# EAGLE library part RXB6 (library ali_modules)
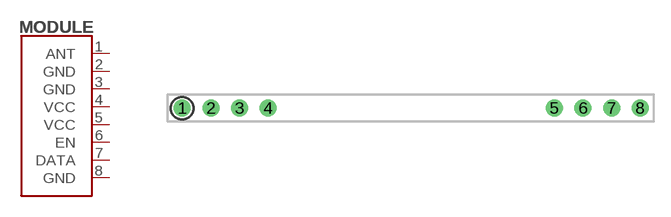
[diagram p20: symbol with the pads of RXB6; footprint RXB6]

Designator prefix MODULE

## RXB6 (MANF#: RXB6)  [RXB6]
1  ANT
2  GND
3  GND
4  VCC
5  VCC
6  EN
7  DATA
8  GND

## Footprint RXB6 (pad centres in mm)
drill 1: 1 -20.32,0; 2 -17.78,0; 3 -15.24,0; 4 -12.7,0; 5 12.7,0; 6 15.24,0; 7 17.78,0; 8 20.32,0